# EAGLE library part 1-406525-1 (library SPI_Switch)
TE Connectivity Ethernet Jack
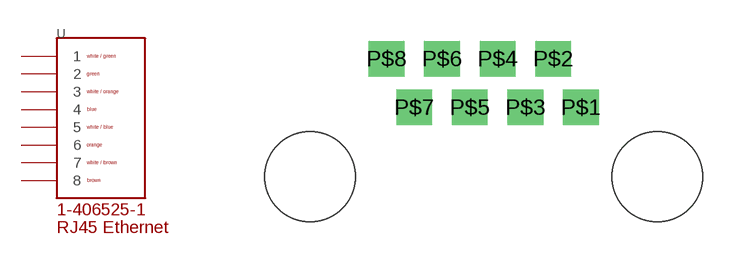
[diagram p0: symbol with the pads of 1-406525-1; footprint 1-406525-1]

Designator prefix -

## 1-406525-1  [1-406525-1]
P$1  1
P$2  2
P$3  3
P$4  4
P$5  5
P$6  6
P$7  7
P$8  8

## Footprint 1-406525-1 (pad centres in mm)
1-406525-1 Footprint
drill 0.8 square: P$1 0,0; P$2 -1.016,1.778; P$3 -2.032,0; P$4 -3.048,1.778; P$5 -4.064,0; P$6 -5.08,1.778; P$7 -6.096,0; P$8 -7.112,1.778
hole 3.302 at -9.906,-2.54
hole 3.302 at 2.794,-2.54